# Altium schematic symbol library buck.SchLib: 5 symbols
Pins are listed as number, name and electrical type; pins without a type are passive.

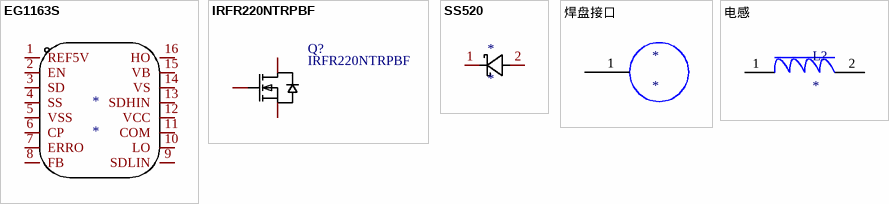
[diagram p0: symbols EG1163S to 电感]

## EG1163S
designator *
pins: 1 REF5V, 2 EN, 3 SD, 4 SS, 5 VSS, 6 CP, 7 ERRO, 8 FB, 9 SDLIN, 10 LO, 11 COM, 12 VCC, 13 SDHIN, 14 VS, 15 VB, 16 HO

## IRFR220NTRPBF
designator Q?
Manufacturer: Infineon(英飞凌); Add into BOM: yes; Type: 1个N沟道; Drain Source Voltage (Vdss): 200V; Continuous Drain Current (Id): 5A; Power Dissipation (Pd): 43W; Drain Source On Resistance (RDS(on)@Vgs,Id): 600mΩ@10V,2.9A; Gate Threshold Voltage (Vgs(th)@Id): 4V@250uA; Total Gate Charge (Qg@Vgs): 23nC@10V; Input Capacitance (Ciss@Vds): 300pF@25V; Symbol: IRFR220N; Device: IRFR220NTRPBF; LCSC Part Name: 1个N沟道 耐压:200V 电流:5A; Supplier Part: C2584; Manufacturer Part: IRFR220NTRPBF; Supplier Footprint: TO-252-2(DPAK); Datasheet: https://atta.szlcsc.com/upload/public/pdf/source/20200323/C500528_AD38F318A115118F4DB56F5A4EA6919E.pdf; Supplier: LCSC; Convert to PCB: yes; Operating Temperature: -55℃~+175℃@(Tj); Name: IRFR220NTRPBF
footprint TO-252-2_L6.6-W6.1-P4.57-LS9.9-TR-CW
pins: 1 G, 2 D, 3 S

## SS520
designator *
pins: 1 K, 2 A

## 焊盘接口
designator *
pins: 1

## 电感
designator L?
pins: 1, 2